# EAGLE library part MYRLP330015F21RE (library MYRLP330015F21RE)
Non-Isolated DC/DC Converters 150mA 1.8-6.0Vin 3.30Vout -40 to 85degC PWM Source: Datasheet <https://www.murata.com/products/productdata/8816917708830/MYRLP-F.pdf?1656300615000>
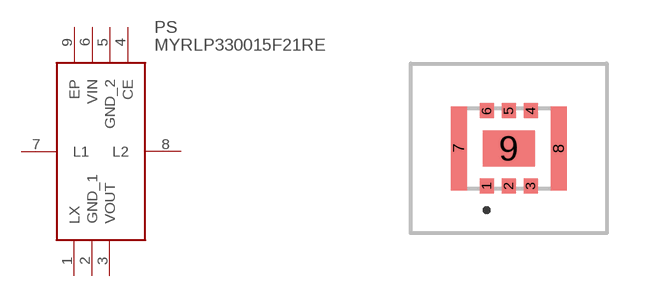
[diagram p0: symbol with the pads of MYRLP330015F21RE; footprint MYRLP330015F21RE]

Designator prefix PS

## MYRLP330015F21RE (Description: Non-Isolated DC/DC Converters 150mA 1.8-6.0Vin 3.30Vout -40 to 85degC PWM; Height: 1.04mm; Manufacturer_Name: Murata Electronics; Manufacturer_Part_Number: MYRLP330015F21RE; Mouser_Part_Number: 580-MYRLP330015F21RE; Mouser_Price-Stock: https://www.mouser.co.uk/ProductDetail/Murata-Power-Solutions/MYRLP330015F21RE?qs=vvQtp7zwQdNOX7V%2FydgWKA%3D%3D)  [MYRLP330015F21RE]
1  LX
2  GND_1
3  VOUT
4  CE
5  GND_2
6  VIN
7  L1
8  L2
9  EP

## Footprint MYRLP330015F21RE (pad centres in mm)
MYRLP330015F21RE-2
smd 0.35 x 0.375: 1 -0.55,-0.938; 2 0,-0.938; 3 0.55,-0.938; 4 0.55,0.938; 5 0,0.938; 6 -0.55,0.938
smd 0.4 x 2.1: 7 -1.25,0; 8 1.25,0
smd 1.3 x 0.9: 9 0,0